# Altium schematic symbol library Mux_PI3USB221AZWEX.SchLib: 1 symbol
Pins are listed as number, name and electrical type; pins without a type are passive.

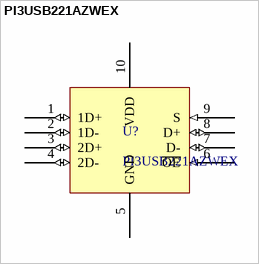
[diagram p0: symbol PI3USB221AZWEX]

## PI3USB221AZWEX
designator U?
PI3USB221AZWEX Multiplexer; Manufacturer: Diodes Incorporated; Reference: PI3USB221AZWEX
footprint PI3USB221AZWEX (PI3USB221AZWEX UQFN)
pins: 1 1D+ (io), 2 1D- (io), 3 2D+ (io), 4 2D- (io), 5 GND (power), 6 ~{OE} (in), 7 D- (io), 8 D+ (io), 9 S (in), 10 VDD (power)